# Altium schematic symbol library TSschem.SchLib: 13 symbols
Pins are listed as number, name and electrical type; pins without a type are passive.

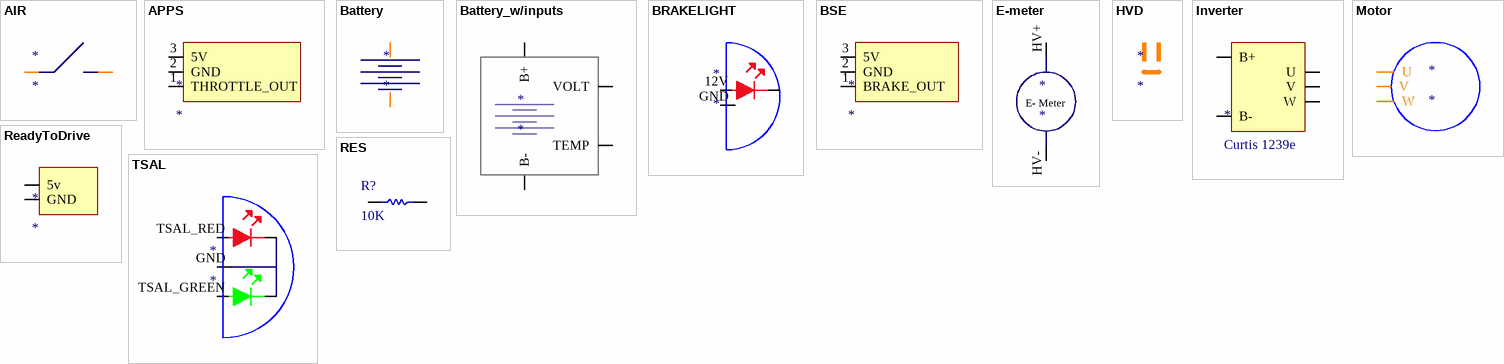
[diagram p0: symbols AIR to TSAL]

## AIR
designator *
pins: 1, 2

## APPS
designator *
pins: 1 THROTTLE_OUT, 2 GND, 3 5V

## Battery
designator *
pins: 1, 2

## Battery_w/inputs
designator *
pins: 1 B+, 2 B-, 3 VOLT, 4 TEMP

## BRAKELIGHT
designator *
pins: 2, 12V 1, GND 2

## BSE
designator *
pins: 1 BRAKE_OUT, 2 GND, 3 5V

## E-meter
designator *
pins: HV+ 1, HV- 2
text: E- Meter /

## HVD
designator *

## Inverter
designator *, comment Curtis 1239e
pins: 1 B-, 2 B+, 3 U, 4 V, 5 W

## Motor
designator *
pins: 3 U, 4 V, 5 W

## ReadyToDrive
designator *
pins: 1 5v, 2 GND

## RES
designator R?, comment 10K
pins: 1, 2

## TSAL
designator *
pins: 2, 2, GND 3, TSAL_GREEN 1, TSAL_RED 1